# EAGLE library part LT3482 (library PowerProducts)
LT-Spice library generated with : ltspice.ulp from: E:/Programme/LTC/LTspiceIV/lib/sym/PowerProducts/LT3483*.asy at 05.10.2012 11:18:15
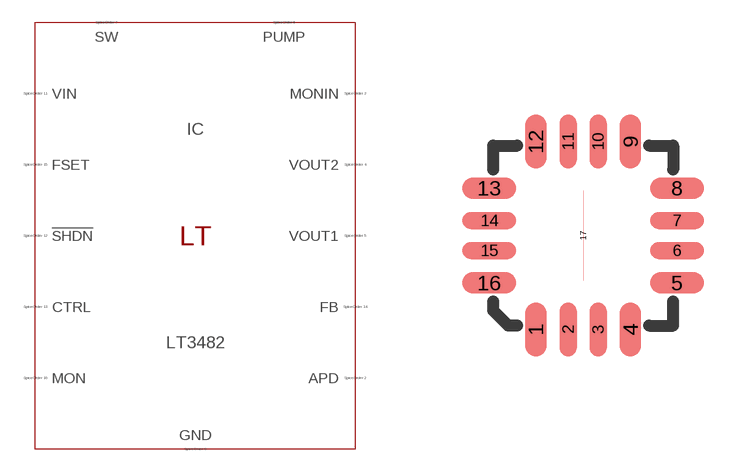
[diagram p46: symbol with the pads of QFN16(UD); footprint QFN16(UD)]

Designator prefix IC

## LT3482 (SPICEMODEL: LT1762.lib; SPICEPREFIX: X; VALUE2: LT1762)  [QFN16(UD)]
2  APD  pas
3  MONIN  pas
4  VOUT2  pas
5  VOUT1  pas
6  PUMP  pas
7  SW  pas
8  SW  pas
9  GND  pas
10  GND  pas
11  VIN  pas
12  !SHDN  pas
13  CTRL  pas
14  FB  pas
15  FSET  pas
16  MON  pas
17  GND  pas

## Footprint QFN16(UD) (pad centres in mm)
Package generated from: QFN16(UD).asc (!PADS-POWERPCB-V9.3-BASIC! DESIGN DATABASE ASCII FILE 1.0) with :import-pads-powerpcb-v5.ulp Version 1.0.1 at 04.10.2012 14:11:23
smd 0.54 x 1.35: 1 -1.185,-2.348; 4 1.185,-2.348; 9 1.185,2.348; 12 -1.185,2.348
smd 0.42 x 1.35: 2 -0.375,-2.348; 3 0.375,-2.348; 10 0.375,2.348; 11 -0.375,2.348
smd 1.35 x 0.54: 5 2.348,-1.185; 8 2.348,1.185; 13 -2.348,1.185; 16 -2.348,-1.185
smd 1.35 x 0.42: 6 2.348,-0.375; 7 2.348,0.375; 14 -2.348,0.375; 15 -2.348,-0.375
smd 0 x 2.25: 17 0,0